# EAGLE library part ADM3485EARZ (library ADM3485EARZ)
+/-15 kV ESD-Protected, 3.3 V,12 Mbps,EIA RS-485/RS-422 Transceiver Source: Datasheet <http://uk.rs-online.com/web/p/products/0412709P>
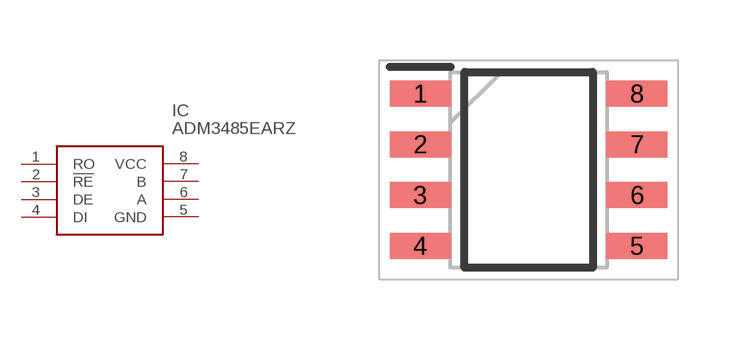
[diagram p0: symbol with the pads of SOIC127P600X175-8N; footprint SOIC127P600X175-8N]

Designator prefix IC

## ADM3485EARZ (Description: +/-15 kV ESD-Protected, 3.3 V,12 Mbps,EIA RS-485/RS-422 Transceiver; Height: 1.75mm; Manufacturer_Name: Analog Devices; Manufacturer_Part_Number: ADM3485EARZ; RS_Part_Number: 0412709P; RS_Price-Stock: http://uk.rs-online.com/web/p/products/0412709P)  [SOIC127P600X175-8N]
1  RO
2  !RE
3  DE
4  DI
5  GND
6  A
7  B
8  VCC

## Footprint SOIC127P600X175-8N (pad centres in mm)
8 LEAD (SOIC_N)
smd 1.525 x 0.65: 1 -2.712,1.905; 2 -2.712,0.635; 3 -2.712,-0.635; 4 -2.712,-1.905; 5 2.712,-1.905; 6 2.712,-0.635; 7 2.712,0.635; 8 2.712,1.905